# Altium footprint library WURTH 691508110305.PCBLIB: 1 footprints
Each footprint in its own frame and in the unit in brackets; x right, y up, seen from the top. Pads: shape width x height; smd on the part's side, far side on the other; paste and mask are expansions set on the pad; w line width, h text height; cw(c..) or ccw(c..) is an arc to the next point about the centre after c.
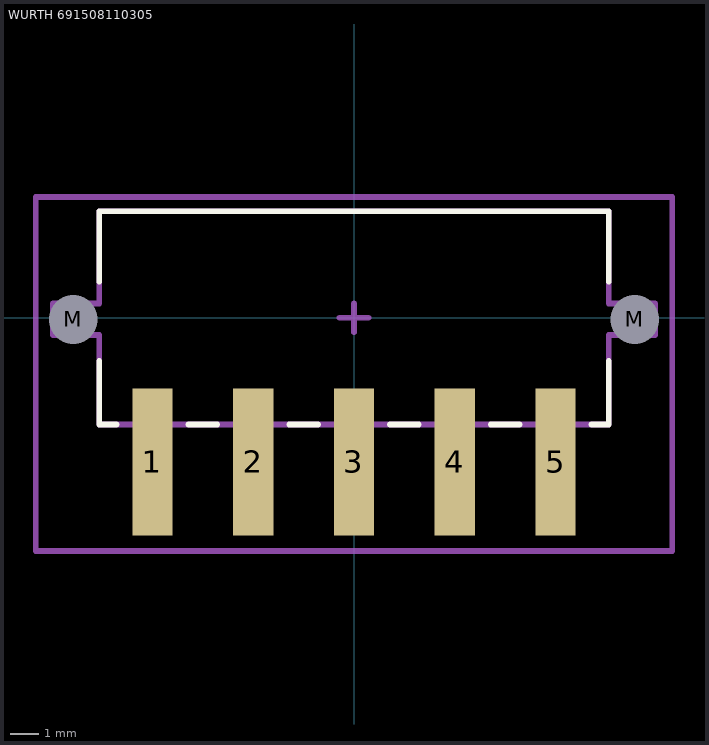
[diagram p0: the footprint, top view; thin cyan lines are the x and y axes]

## WURTH 691508110305 [mm]
height 11.2
pads (7):
  rect 1.4x5.1 smd: 1(-7,-5) 2(-3.5,-5) 3(0,-5) 4(3.5,-5) 5(7,-5)
  round 1 hole 1.7 unplated: M(-9.75,-0.05) M(9.75,-0.05)
Top Overlay:
  lines w0.2: -8.85,-1.5 -8.85,-3.7 -8.25,-3.7 ; -8.85,1.25 -8.85,3.7 8.85,3.7 8.85,1.25 ; -5.75,-3.7 -4.75,-3.7 ; -2.25,-3.7 -1.25,-3.7 ; 1.25,-3.7 2.25,-3.7 ; 4.75,-3.7 5.75,-3.7 ; 8.25,-3.7 8.85,-3.7 8.85,-1.5
Mechanical 1:
  lines w0.2: -10.45,-0.6 -10.45,0.5 -8.85,0.5 -8.85,3.7 8.85,3.7 8.85,0.5 10.45,0.5 10.45,-0.6 8.85,-0.6 8.85,-3.7 -8.85,-3.7 -8.85,-0.6 -10.45,-0.6
Mechanical 15:
  lines w0.2: -0.5,0 0.5,0 ; 0,-0.5 0,0.5 ; -11.05,-8.1 11.05,-8.1 11.05,4.2 -11.05,4.2 -11.05,-8.1
3D body "Wurth 691508110305.STEP": height 11.2, standoff -2, extent -10.425,-7.2 10.425,3.7